# Altium footprint library Crystals.PCBLIB: 22 footprints (part 2 of 2)
Each footprint in its own frame and in the unit in brackets; x right, y up, seen from the top. Pads: shape width x height; smd on the part's side, far side on the other; paste and mask are expansions set on the pad; w line width, h text height; cw(c..) or ccw(c..) is an arc to the next point about the centre after c.
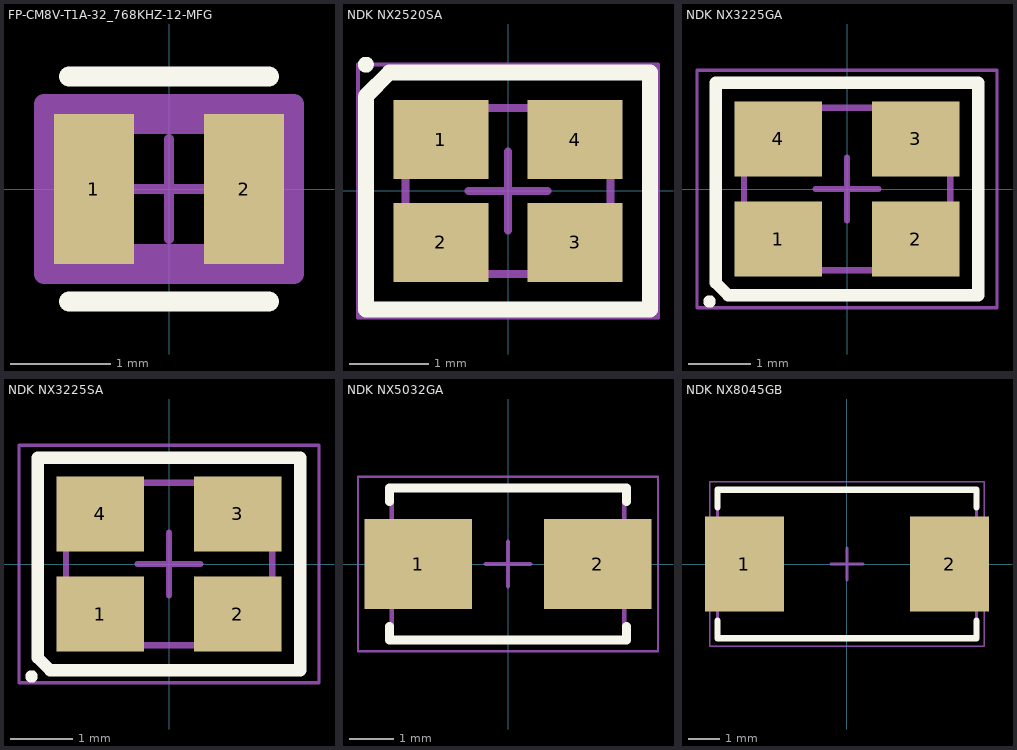
[diagram p1: the footprints below, top view; thin cyan lines are the x and y axes]

## FP-CM8V-T1A-32_768KHZ-12-MFG [mm]
pads (2):
  rect 0.8x1.5 smd paste+0 mask+0: 1(-0.75,0) 2(0.75,0)
Top Overlay:
  lines w0.2: -1,-1.125 1,-1.125 ; -1,1.125 1,1.125
Top 3D Body:
  lines w0.2: -1.05,-0.65 -1.05,0.65 1.05,0.65 1.05,-0.65 -1.05,-0.65
Top Courtyard:
  lines w0.2: -1.25,-0.85 -1.25,0.85 1.25,0.85 1.25,-0.85 -1.25,-0.85
Top Assembly:
  lines w0.2: -1.25,-0.85 -1.25,0.85 1.25,0.85 1.25,-0.85 -1.25,-0.85
  text ".Designator" at 0,0.188 h1
Top Component Center:
  lines w0.1: -0.5,0 0.5,0 ; 0,-0.5 0,0.5
3D body "Crys_Micro_Crystal_CM8V-T1A-32_768KHZ-12_5PF-20PPM-TB-QA_eec.STEP": height 0.25, standoff 0, extent -1.25,-0.85 1.25,0.85

## NDK NX2520SA [mm] "Crystal, 4-Leads, Body 2.00x2.50mm, Pitch 1.70mm, IPC Medium Density"
height 0.5
pads (4):
  rect 1.2x1 smd: 1(-0.85,0.65) 2(-0.85,-0.65) 3(0.85,-0.65) 4(0.85,0.65)
Top Overlay:
  circle w0.1: c-1.8,1.6 r0.05
  lines w0.2: -1.8,-1.5 -1.8,1.2 -1.5,1.5 1.8,1.5 1.8,-1.5 -1.8,-1.5
Mechanical 13:
  lines w0.1: -1.3,-1.05 1.3,-1.05 1.3,1.05 -1.3,1.05 -1.3,-1.05
Mechanical 15:
  lines w0.05: -1.9,-1.6 1.9,-1.6 1.9,1.6 -1.9,1.6 -1.9,-1.6
  lines w0.1: -0.5,0 0.5,0 ; 0,-0.5 0,0.5
3D body "NDK NX2520SA.STEP": height 0.5, standoff 0, extent -1.26,-1.01 1.26,1.01

## NDK NX3225GA [mm] "Crystal, 4-Leads, Body 2.50x3.20mm, Pitch 2.20mm, IPC Medium Density"
height 0.6
pads (4):
  rect 1.4x1.2 smd: 1(-1.1,-0.8) 2(1.1,-0.8) 3(1.1,0.8) 4(-1.1,0.8)
Top Overlay:
  circle w0.1: c-2.2,-1.8 r0.05
  lines w0.2: -2.1,-1.5 -2.1,1.7 2.1,1.7 2.1,-1.7 -1.1,-1.7 -1.9,-1.7 -2.1,-1.5
Mechanical 13:
  lines w0.1: -1.65,-1.3 -1.65,1.3 1.65,1.3 1.65,-1.3 -1.65,-1.3
Mechanical 15:
  lines w0.05: -2.4,-1.9 -2.4,1.9 2.4,1.9 2.4,-1.9 -2.4,-1.9
  lines w0.1: -0.5,0 0.5,0 ; 0,-0.5 0,0.5
3D body "NDK NX3225GA.STEP": height 0.75, standoff 0, extent -1.61,-1.26 1.61,1.26

## NDK NX3225SA [mm] "Crystal, 4-Leads, Body 2.50x3.20mm, Pitch 2.20mm, IPC Medium Density"
height 0.6
pads (4):
  rect 1.4x1.2 smd: 1(-1.1,-0.8) 2(1.1,-0.8) 3(1.1,0.8) 4(-1.1,0.8)
Top Overlay:
  circle w0.1: c-2.2,-1.8 r0.05
  lines w0.2: -2.1,-1.5 -1.9,-1.7 -1.1,-1.7 2.1,-1.7 2.1,1.7 -2.1,1.7 -2.1,-1.5
Mechanical 13:
  lines w0.1: -1.65,-1.3 1.65,-1.3 1.65,1.3 -1.65,1.3 -1.65,-1.3
Mechanical 15:
  lines w0.05: -2.4,-1.9 2.4,-1.9 2.4,1.9 -2.4,1.9 -2.4,-1.9
  lines w0.1: -0.5,0 0.5,0 ; 0,-0.5 0,0.5
3D body "NDK NX3225SA.STEP": height 0.6, standoff 0, extent -1.61,-1.26 1.61,1.26

## NDK NX5032GA [mm] "Crystal, 2-Leads, Body 5.00x3.20mm, IPC Medium Density"
height 1.3
pads (2):
  rect 2.4x2 smd: 1(-2,0) 2(2,0)
Top Overlay:
  lines w0.2: -2.65,-1.4 -2.65,-1.7 2.65,-1.7 2.65,-1.4 ; -2.65,1.4 -2.65,1.7 2.65,1.7 2.65,1.4
Mechanical 13:
  lines w0.1: -2.6,-1.7 2.6,-1.7 2.6,1.7 -2.6,1.7 -2.6,-1.7
Mechanical 15:
  lines w0.05: -3.35,-1.95 3.35,-1.95 3.35,1.95 -3.35,1.95 -3.35,-1.95
  lines w0.1: -0.5,0 0.5,0 ; 0,-0.5 0,0.5
3D body "NDK NX5032GA.STEP": height 1.2, standoff 0, extent -2.5,-1.6 2.5,1.6

## NDK NX8045GB [mm] "Crystal, 2-Leads, Body 4.50x8.00mm, Pitch 6.50mm, IPC Medium Density"
height 1.8
pads (2):
  rect 2.5x3 smd: 1(-3.25,0) 2(3.25,0)
Top Overlay:
  lines w0.2: -4.1,-1.8 -4.1,-2.35 4.1,-2.35 4.1,-1.8 ; -4.1,1.8 -4.1,2.35 4.1,2.35 4.1,1.8
Mechanical 13:
  lines w0.1: -4.1,-2.35 -4.1,2.35 4.1,2.35 4.1,-2.35 -4.1,-2.35
Mechanical 15:
  lines w0.05: -4.35,-2.6 -4.35,2.6 4.35,2.6 4.35,-2.6 -4.35,-2.6
  lines w0.1: -0.5,0 0.5,0 ; 0,-0.5 0,0.5
3D body "NDK NX8045GB.STEP": height 1.8, standoff 0, extent -4,-2.25 4,2.25